# Altium footprint library Diode_THT.PcbLib: 111 footprints (part 1 of 7)
Each footprint in its own frame and in the unit in brackets; x right, y up, seen from the top. Pads: shape width x height; smd on the part's side, far side on the other; paste and mask are expansions set on the pad; w line width, h text height; cw(c..) or ccw(c..) is an arc to the next point about the centre after c.
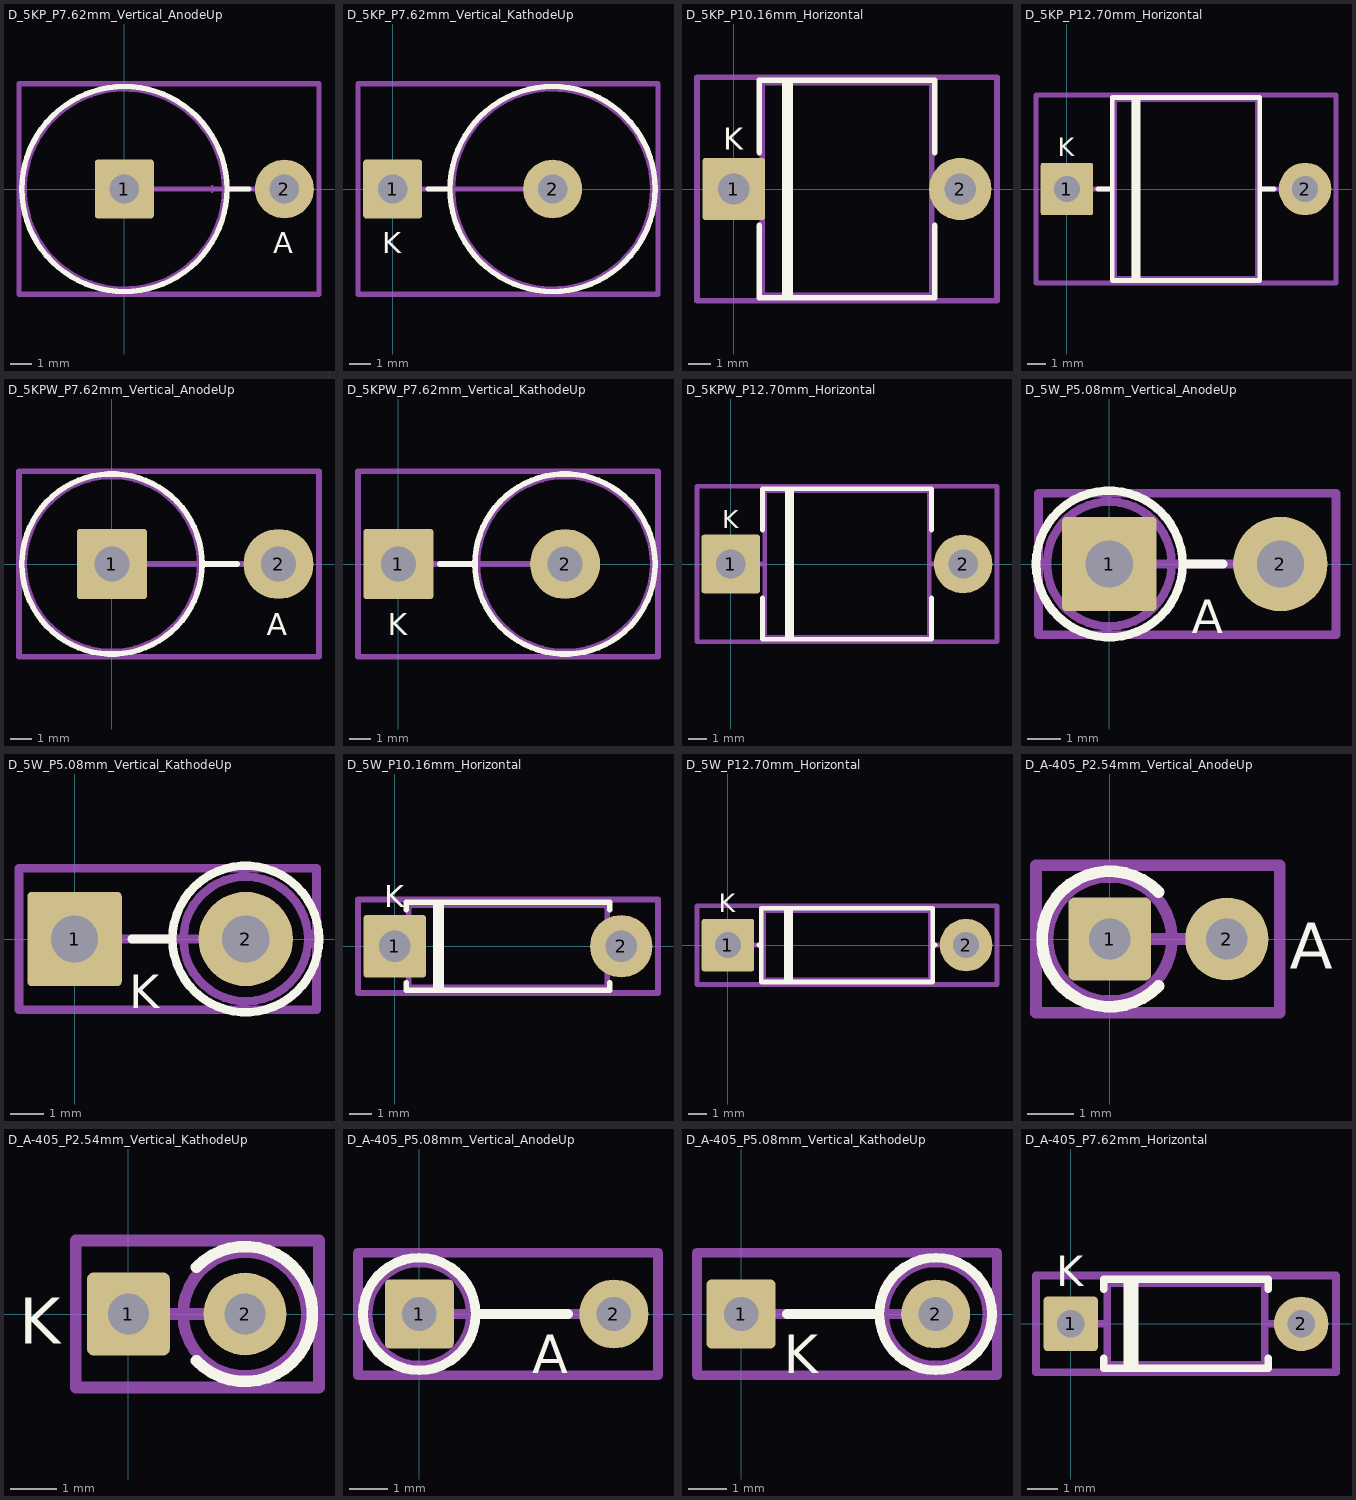
[diagram p0: the footprints below, top view; thin cyan lines are the x and y axes]

## D_5KP_P7.62mm_Vertical_AnodeUp [mm] "D_5KP_P7.62mm_Vertical_AnodeUp"
pads (2):
  rrect9% 2.8x2.8 hole 1.4: 1(0,0)
  round 2.8 hole 1.4: 2(7.62,0)
F.SilkS:
  circle w0.254: c0,0 r4.885
  lines w0.254: 4.885,0 5.92,0
  text "A" at 7.089,-3.05 h1
Top Component Center:
  lines w0.127: -0.127,0 0.127,0 ; 0,-0.127 0,0.127 ; 4.064,0 4.318,0 ; 4.191,-0.127 4.191,0.127
Top Assembly:
  circle w0.254: c0,0 r4.765
  lines w0.254: 0,0 7.62,0
  text "A" at 7.089,-3.05 h1
Top Courtyard:
  lines w0.254: -5.02,-5.02 -5.02,5.02 9.27,5.02 9.27,-5.02 -5.02,-5.02
Top Designator:
  text ".Designator" at -3.434,1.941 h1.52
3D body "D_5KP_P7.62mm_Vertical_AnodeUp.step": height 10.27, standoff -3, extent -4.775,-4.775 8.17,4.775

## D_5KP_P7.62mm_Vertical_KathodeUp [mm] "D_5KP_P7.62mm_Vertical_KathodeUp"
pads (2):
  rrect9% 2.8x2.8 hole 1.4: 1(0,0)
  round 2.8 hole 1.4: 2(7.62,0)
F.SilkS:
  circle w0.254: c7.62,0 r4.885
  lines w0.254: 1.7,0 2.735,0
  text "K" at -0.483,-3.05 h1
Top Component Center:
  lines w0.127: -0.127,0 0.127,0 ; 0,-0.127 0,0.127
Top Assembly:
  circle w0.254: c7.62,0 r4.765
  lines w0.254: 0,0 7.62,0
  text "K" at -0.483,-3.05 h1
Top Courtyard:
  lines w0.254: -1.65,-5.02 12.64,-5.02 12.64,5.02 -1.65,5.02 -1.65,-5.02
Top Designator:
  text ".Designator" at 4.059,2.068 h1.52
3D body "D_5KP_P7.62mm_Vertical_KathodeUp.step": height 10.27, standoff -3, extent -0.55,-4.775 12.395,4.775

## D_5KP_P10.16mm_Horizontal [mm] "D_5KP_P10.16mm_Horizontal"
pads (2):
  rrect9% 2.8x2.8 hole 1.4: 1(0,0)
  round 2.8 hole 1.4: 2(10.16,0)
F.SilkS:
  lines w0.254: 1.15,-1.64 1.15,-4.885 9.01,-4.885 9.01,-1.64 ; 1.15,1.64 1.15,4.885 9.01,4.885 9.01,1.64 ; 2.293,-4.885 2.293,4.885 ; 2.413,-4.885 2.413,4.885 ; 2.533,-4.885 2.533,4.885
  text "K" at -0.483,1.75 h1
Top Component Center:
  lines w0.127: -0.127,0 0.127,0 ; 0,-0.127 0,0.127
Top Assembly:
  lines w0.254: 0,0 1.27,0 ; 2.313,-4.765 2.313,4.765 ; 2.413,-4.765 2.413,4.765 ; 2.513,-4.765 2.513,4.765 ; 8.89,0 10.16,0 ; 1.27,-4.765 8.89,-4.765 8.89,4.765 1.27,4.765 1.27,-4.765
  text "K" at -0.483,1.75 h1
Top Courtyard:
  lines w0.254: -1.65,-5.02 11.81,-5.02 11.81,5.02 -1.65,5.02 -1.65,-5.02
Top Designator:
  text ".Designator" at 4.989,3.688 h1.52
3D body "D_5KP_P10.16mm_Horizontal.step": height 10.04, standoff -2.5, extent -0.55,-4.775 10.71,4.775

## D_5KP_P12.70mm_Horizontal [mm] "D_5KP_P12.70mm_Horizontal"
pads (2):
  rrect9% 2.8x2.8 hole 1.4: 1(0,0)
  round 2.8 hole 1.4: 2(12.7,0)
F.SilkS:
  lines w0.254: 1.64,0 2.42,0 ; 3.563,-4.885 3.563,4.885 ; 3.683,-4.885 3.683,4.885 ; 3.803,-4.885 3.803,4.885 ; 10.28,0 11.06,0 ; 2.42,-4.885 2.42,4.885 10.28,4.885 10.28,-4.885 2.42,-4.885
  text "K" at -0.483,1.75 h1
Top Component Center:
  lines w0.127: -0.127,0 0.127,0 ; 0,-0.127 0,0.127
Top Assembly:
  lines w0.254: 0,0 2.54,0 ; 3.583,-4.765 3.583,4.765 ; 3.683,-4.765 3.683,4.765 ; 3.783,-4.765 3.783,4.765 ; 10.16,0 12.7,0 ; 2.54,-4.765 2.54,4.765 10.16,4.765 10.16,-4.765 2.54,-4.765
  text "K" at -0.483,1.75 h1
Top Courtyard:
  lines w0.254: -1.65,-5.02 -1.65,5.02 14.35,5.02 14.35,-5.02 -1.65,-5.02
Top Designator:
  text ".Designator" at 6.386,3.434 h1.52
3D body "D_5KP_P12.70mm_Horizontal.step": height 10.04, standoff -2.5, extent -0.55,-4.775 13.25,4.775

## D_5KPW_P7.62mm_Vertical_AnodeUp [mm] "D_5KPW_P7.62mm_Vertical_AnodeUp"
pads (2):
  rrect8% 3.2x3.2 hole 1.6: 1(0,0)
  round 3.2 hole 1.6: 2(7.62,0)
F.SilkS:
  circle w0.254: c0,0 r4.12
  lines w0.254: 4.12,0 5.72,0
  text "A" at 7.089,-3.25 h1
Top Component Center:
  lines w0.127: -0.127,0 0.127,0 ; 0,-0.127 0,0.127
Top Assembly:
  circle w0.254: c0,0 r4
  lines w0.254: 0,0 7.62,0
  text "A" at 7.089,-3.25 h1
Top Courtyard:
  lines w0.254: -4.25,-4.25 -4.25,4.25 9.47,4.25 9.47,-4.25 -4.25,-4.25
Top Designator:
  text ".Designator" at -1.275,2.068 h1.52
3D body "D_5KPW_P7.62mm_Vertical_AnodeUp.step": height 11.95, standoff -3, extent -4.01,-4.01 8.27,4.01

## D_5KPW_P7.62mm_Vertical_KathodeUp [mm] "D_5KPW_P7.62mm_Vertical_KathodeUp"
pads (2):
  rrect8% 3.2x3.2 hole 1.6: 1(0,0)
  round 3.2 hole 1.6: 2(7.62,0)
F.SilkS:
  circle w0.254: c7.62,0 r4.12
  lines w0.254: 1.9,0 3.5,0
  text "K" at -0.483,-3.25 h1
Top Component Center:
  lines w0.127: -0.127,0 0.127,0 ; 0,-0.127 0,0.127
Top Assembly:
  circle w0.254: c7.62,0 r4
  lines w0.254: 0,0 7.62,0
  text "K" at -0.483,-3.25 h1
Top Courtyard:
  lines w0.254: -1.85,-4.25 11.87,-4.25 11.87,4.25 -1.85,4.25 -1.85,-4.25
Top Designator:
  text ".Designator" at -0.767,2.449 h1.52
3D body "D_5KPW_P7.62mm_Vertical_KathodeUp.step": height 11.95, standoff -3, extent -0.65,-4.01 11.63,4.01

## D_5KPW_P12.70mm_Horizontal [mm] "D_5KPW_P12.70mm_Horizontal"
pads (2):
  rrect8% 3.2x3.2 hole 1.6: 1(0,0)
  round 3.2 hole 1.6: 2(12.7,0)
F.SilkS:
  lines w0.254: 1.73,-1.84 1.73,-4.12 10.97,-4.12 10.97,-1.84 ; 1.73,1.84 1.73,4.12 10.97,4.12 10.97,1.84 ; 3.08,-4.12 3.08,4.12 ; 3.2,-4.12 3.2,4.12 ; 3.32,-4.12 3.32,4.12
  text "K" at -0.483,1.95 h1
Top Component Center:
  lines w0.127: -0.127,0 0.127,0 ; 0,-0.127 0,0.127
Top Assembly:
  lines w0.254: 0,0 1.85,0 ; 3.1,-4 3.1,4 ; 3.2,-4 3.2,4 ; 3.3,-4 3.3,4 ; 10.85,0 12.7,0 ; 1.85,-4 1.85,4 10.85,4 10.85,-4 1.85,-4
  text "K" at -0.483,1.95 h1
Top Courtyard:
  lines w0.254: -1.85,-4.25 -1.85,4.25 14.55,4.25 14.55,-4.25 -1.85,-4.25
Top Designator:
  text ".Designator" at 3.551,-0.345 h1.52
3D body "D_5KPW_P12.70mm_Horizontal.step": height 8.51, standoff -2.5, extent -0.65,-4.01 13.35,4.01

## D_5W_P5.08mm_Vertical_AnodeUp [mm] "D_5W_P5.08mm_Vertical_AnodeUp"
pads (2):
  rrect9% 2.8x2.8 hole 1.4: 1(0,0)
  round 2.8 hole 1.4: 2(5.08,0)
F.SilkS:
  circle w0.254: c0,0 r2.175
  lines w0.254: 2.175,0 3.38,0
  text "A" at 2.449,-2.05 h1
Top Component Center:
  lines w0.127: -0.127,0 0.127,0 ; 0,-0.127 0,0.127
Top Assembly:
  circle w0.254: c0,0 r1.85
  lines w0.254: 0,0 5.08,0
  text "A" at 2.449,-2.05 h1
Top Courtyard:
  lines w0.254: -2.1,-2.1 6.73,-2.1 6.73,2.1 -2.1,2.1 -2.1,-2.1
Top Designator:
  text ".Designator" at -0.64,1.052 h1.52
3D body "D_5W_P5.08mm_Vertical_AnodeUp.step": height 11.55, standoff -3, extent -1.86,-1.86 5.63,1.86

## D_5W_P5.08mm_Vertical_KathodeUp [mm] "D_5W_P5.08mm_Vertical_KathodeUp"
pads (2):
  rrect9% 2.8x2.8 hole 1.4: 1(0,0)
  round 2.8 hole 1.4: 2(5.08,0)
F.SilkS:
  circle w0.254: c5.08,0 r2.175
  lines w0.254: 1.7,0 2.905,0
  text "K" at 1.617,-2.05 h1
Top Component Center:
  lines w0.127: -0.127,0 0.127,0 ; 0,-0.127 0,0.127
Top Assembly:
  circle w0.254: c5.08,0 r1.85
  lines w0.254: 0,0 5.08,0
  text "K" at 1.617,-2.05 h1
Top Courtyard:
  lines w0.254: -1.65,-2.1 7.18,-2.1 7.18,2.1 -1.65,2.1 -1.65,-2.1
Top Designator:
  text ".Designator" at -0.767,1.052 h1.52
3D body "D_5W_P5.08mm_Vertical_KathodeUp.step": height 11.55, standoff -3, extent -0.55,-1.86 6.94,1.86

## D_5W_P10.16mm_Horizontal [mm] "D_5W_P10.16mm_Horizontal"
pads (2):
  rrect9% 2.8x2.8 hole 1.4: 1(0,0)
  round 2.8 hole 1.4: 2(10.16,0)
F.SilkS:
  lines w0.254: 0.51,-1.64 0.51,-1.97 9.65,-1.97 9.65,-1.64 ; 0.51,1.64 0.51,1.97 9.65,1.97 9.65,1.64 ; 1.845,-1.97 1.845,1.97 ; 1.965,-1.97 1.965,1.97 ; 2.085,-1.97 2.085,1.97
  text "K" at -0.483,1.75 h1
Top Component Center:
  lines w0.127: -0.127,0 0.127,0 ; 0,-0.127 0,0.127
Top Assembly:
  lines w0.254: 0,0 0.63,0 ; 1.865,-1.85 1.865,1.85 ; 1.965,-1.85 1.965,1.85 ; 2.065,-1.85 2.065,1.85 ; 9.53,0 10.16,0 ; 0.63,-1.85 0.63,1.85 9.53,1.85 9.53,-1.85 0.63,-1.85
  text "K" at -0.483,1.75 h1
Top Courtyard:
  lines w0.254: -1.65,-2.1 -1.65,2.1 11.81,2.1 11.81,-2.1 -1.65,-2.1
Top Designator:
  text ".Designator" at 1.9,-0.472 h1.52
3D body "D_5W_P10.16mm_Horizontal.step": height 4.21, standoff -2.5, extent -0.55,-1.86 10.71,1.86

## D_5W_P12.70mm_Horizontal [mm] "D_5W_P12.70mm_Horizontal"
pads (2):
  rrect9% 2.8x2.8 hole 1.4: 1(0,0)
  round 2.8 hole 1.4: 2(12.7,0)
F.SilkS:
  lines w0.254: 1.64,0 1.78,0 ; 3.115,-1.97 3.115,1.97 ; 3.235,-1.97 3.235,1.97 ; 3.355,-1.97 3.355,1.97 ; 10.92,0 11.06,0 ; 1.78,-1.97 1.78,1.97 10.92,1.97 10.92,-1.97 1.78,-1.97
  text "K" at -0.483,1.75 h1
Top Component Center:
  lines w0.127: -0.127,0 0.127,0 ; 0,-0.127 0,0.127
Top Assembly:
  lines w0.254: 0,0 1.9,0 ; 3.135,-1.85 3.135,1.85 ; 3.235,-1.85 3.235,1.85 ; 3.335,-1.85 3.335,1.85 ; 10.8,0 12.7,0 ; 1.9,-1.85 1.9,1.85 10.8,1.85 10.8,-1.85 1.9,-1.85
  text "K" at -0.483,1.75 h1
Top Courtyard:
  lines w0.254: -1.65,-2.1 -1.65,2.1 14.35,2.1 14.35,-2.1 -1.65,-2.1
Top Designator:
  text ".Designator" at 3.551,-0.472 h1.52
3D body "D_5W_P12.70mm_Horizontal.step": height 4.21, standoff -2.5, extent -0.55,-1.86 13.25,1.86

## D_A-405_P2.54mm_Vertical_AnodeUp [mm] "D_A-405_P2.54mm_Vertical_AnodeUp"
pads (2):
  rrect14% 1.8x1.8 hole 0.9: 1(0,0)
  round 1.8 hole 0.9: 2(2.54,0)
F.SilkS:
  lines w0.254: 1.059,-1.02 cw(c0,0) 1.059,1.02
  text "A" at 3.909,-0.65 h1
Top Component Center:
  lines w0.127: -0.127,0 0.127,0 ; 0,-0.127 0,0.127
Top Assembly:
  circle w0.254: c0,0 r1.35
  lines w0.254: 0,0 2.54,0
  text "A" at 3.909,-0.65 h1
Top Courtyard:
  lines w0.254: -1.6,-1.6 3.69,-1.6 3.69,1.6 -1.6,1.6 -1.6,-1.6
Top Designator:
  text ".Designator" at -2.418,0.544 h1.52
3D body "D_A-405_P2.54mm_Vertical_AnodeUp.step": height 7.1, standoff -3, extent -1.36,-1.35 2.84,1.35

## D_A-405_P2.54mm_Vertical_KathodeUp [mm] "D_A-405_P2.54mm_Vertical_KathodeUp"
pads (2):
  rrect14% 1.8x1.8 hole 0.9: 1(0,0)
  round 1.8 hole 0.9: 2(2.54,0)
F.SilkS:
  lines w0.254: 1.481,-1.02 ccw(c2.54,0) 1.481,1.02
  text "K" at -2.383,-0.65 h1
Top Component Center:
  lines w0.127: -0.127,0 0.127,0 ; 0,-0.127 0,0.127
Top Assembly:
  circle w0.254: c2.54,0 r1.35
  lines w0.254: 0,0 2.54,0
  text "K" at -2.383,-0.65 h1
Top Courtyard:
  lines w0.254: -1.15,-1.6 4.15,-1.6 4.15,1.6 -1.15,1.6 -1.15,-1.6
Top Designator:
  text ".Designator" at -2.037,0.544 h1.52
3D body "D_A-405_P2.54mm_Vertical_KathodeUp.step": height 7.1, standoff -3, extent -0.3,-1.35 3.9,1.35

## D_A-405_P5.08mm_Vertical_AnodeUp [mm] "D_A-405_P5.08mm_Vertical_AnodeUp"
pads (2):
  rrect14% 1.8x1.8 hole 0.9: 1(0,0)
  round 1.8 hole 0.9: 2(5.08,0)
F.SilkS:
  circle w0.254: c0,0 r1.47
  lines w0.254: 1.47,0 3.88,0
  text "A" at 2.949,-1.55 h1
Top Component Center:
  lines w0.127: -0.127,0 0.127,0 ; 0,-0.127 0,0.127
Top Assembly:
  circle w0.254: c0,0 r1.35
  lines w0.254: 0,0 5.08,0
  text "A" at 2.949,-1.55 h1
Top Courtyard:
  lines w0.254: -1.6,-1.6 6.23,-1.6 6.23,1.6 -1.6,1.6 -1.6,-1.6
Top Designator:
  text ".Designator" at -0.894,0.544 h1.52
3D body "D_A-405_P5.08mm_Vertical_AnodeUp.step": height 7.1, standoff -3, extent -1.36,-1.35 5.38,1.35

## D_A-405_P5.08mm_Vertical_KathodeUp [mm] "D_A-405_P5.08mm_Vertical_KathodeUp"
pads (2):
  rrect14% 1.8x1.8 hole 0.9: 1(0,0)
  round 1.8 hole 0.9: 2(5.08,0)
F.SilkS:
  circle w0.254: c5.08,0 r1.47
  lines w0.254: 1.2,0 3.61,0
  text "K" at 1.117,-1.55 h1
Top Component Center:
  lines w0.127: -0.127,0 0.127,0 ; 0,-0.127 0,0.127
Top Assembly:
  circle w0.254: c5.08,0 r1.35
  lines w0.254: 0,0 5.08,0
  text "K" at 1.117,-1.55 h1
Top Courtyard:
  lines w0.254: -1.15,-1.6 -1.15,1.6 6.68,1.6 6.68,-1.6 -1.15,-1.6
Top Designator:
  text ".Designator" at 0.16,0.789 h1

## D_A-405_P7.62mm_Horizontal [mm] "D_A-405_P7.62mm_Horizontal"
pads (2):
  rrect14% 1.8x1.8 hole 0.9: 1(0,0)
  round 1.8 hole 0.9: 2(7.62,0)
F.SilkS:
  lines w0.254: 1.09,-1.14 1.09,-1.47 6.53,-1.47 6.53,-1.14 ; 1.09,1.14 1.09,1.47 6.53,1.47 6.53,1.14 ; 1.87,-1.47 1.87,1.47 ; 1.99,-1.47 1.99,1.47 ; 2.11,-1.47 2.11,1.47
  text "K" at -0.483,1.25 h1
Top Component Center:
  lines w0.127: -0.127,0 0.127,0 ; 0,-0.127 0,0.127
Top Assembly:
  lines w0.254: 0,0 1.21,0 ; 1.89,-1.35 1.89,1.35 ; 1.99,-1.35 1.99,1.35 ; 2.09,-1.35 2.09,1.35 ; 6.41,0 7.62,0 ; 1.21,-1.35 1.21,1.35 6.41,1.35 6.41,-1.35 1.21,-1.35
  text "K" at -0.483,1.25 h1
Top Courtyard:
  lines w0.254: -1.15,-1.6 -1.15,1.6 8.77,1.6 8.77,-1.6 -1.15,-1.6
Top Designator:
  text ".Designator" at 0.63,-0.472 h1.52
3D body "D_A-405_P7.62mm_Horizontal.step": height 3.21, standoff -2.5, extent -0.3,-1.35 7.92,1.35